# EAGLE library part S18V20FX (library S18V20FX)
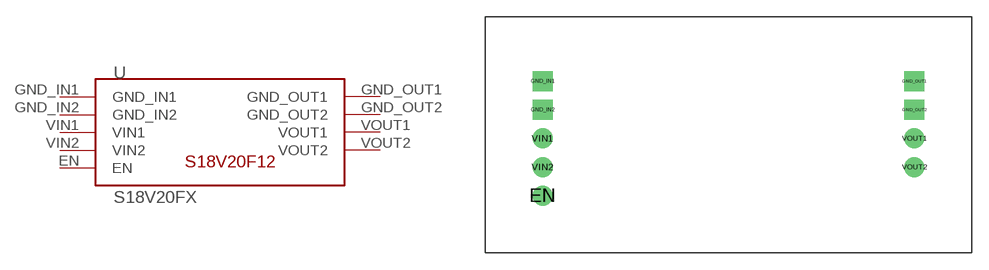
[diagram p0: symbol with the pads of S18V20FX; footprint S18V20FX]

Designator prefix -

## S18V20FX  [S18V20FX]
EN  EN
GND_IN1  GND_IN1
GND_IN2  GND_IN2
GND_OUT1  GND_OUT1
GND_OUT2  GND_OUT2
VIN1  VIN1
VIN2  VIN2
VOUT1  VOUT1
VOUT2  VOUT2

## Footprint S18V20FX (pad centres in mm)
drill 1.016 pad 1.778: EN 5.08,5.08; VIN1 5.08,10.16; VIN2 5.08,7.62; VOUT1 38.1,10.16; VOUT2 38.1,7.62
drill 1.016 pad 1.778 square: GND_IN1 5.08,15.24; GND_IN2 5.08,12.7; GND_OUT1 38.1,15.24; GND_OUT2 38.1,12.7